# Altium footprint library infineon-tricore.PCBLIB: 6 footprints
Each footprint in its own frame and in the unit in brackets; x right, y up, seen from the top. Pads: shape width x height; smd on the part's side, far side on the other; paste and mask are expansions set on the pad; w line width, h text height; cw(c..) or ccw(c..) is an arc to the next point about the centre after c.
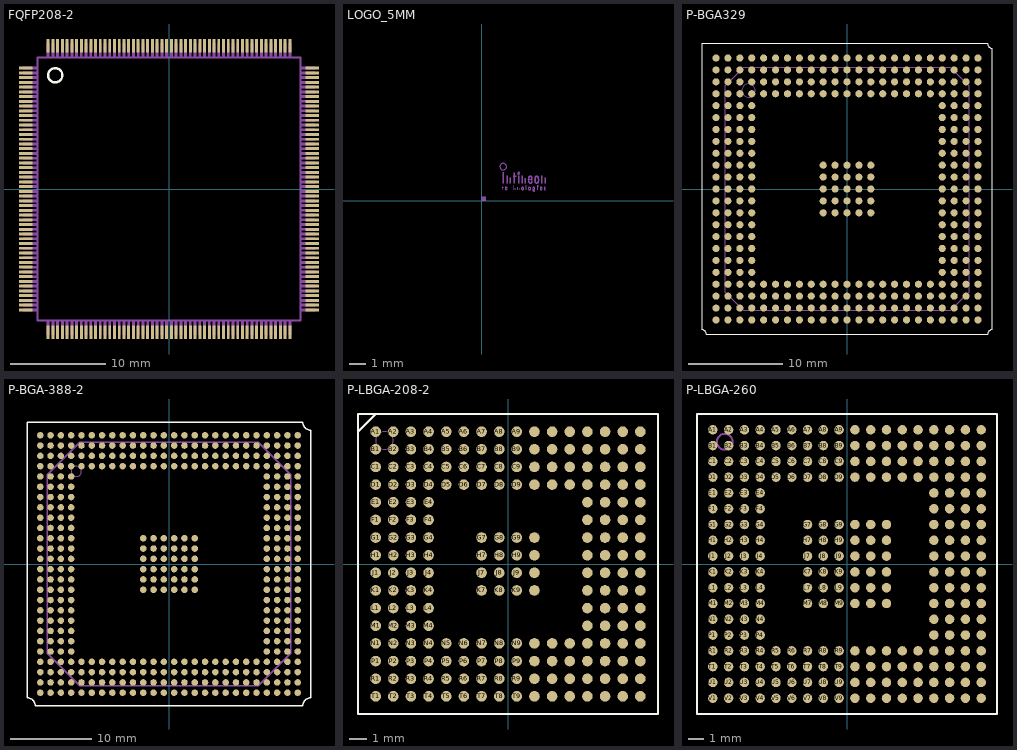
[diagram p0: the footprints below, top view; thin cyan lines are the x and y axes]

## FQFP208-2 [mil]
pads (208):
  rect 55.12x12.2 smd: 1(-595.47,501.97) 2(-595.47,482.28) 3(-595.47,462.6) 4(-595.47,442.91) 5(-595.47,423.23) 6(-595.47,403.54) 7(-595.47,383.86) 8(-595.47,364.17) 9(-595.47,344.49) 10(-595.47,324.8) 11(-595.47,305.12) 12(-595.47,285.43) 13(-595.47,265.75) 14(-595.47,246.06) 15(-595.47,226.38) 16(-595.47,206.69) 17(-595.47,187.01) 18(-595.47,167.32) 19(-595.47,147.64) 20(-595.47,127.95) 21(-595.47,108.27) 22(-595.47,88.58) 23(-595.47,68.9) 24(-595.47,49.21) 25(-595.47,29.53) 26(-595.47,9.84) 27(-595.47,-9.84) 28(-595.47,-29.53) 29(-595.47,-49.21) 30(-595.47,-68.9) 31(-595.47,-88.58) 32(-595.47,-108.27) 33(-595.47,-127.95) 34(-595.47,-147.64) 35(-595.47,-167.32) 36(-595.47,-187.01) 37(-595.47,-206.69) 38(-595.47,-226.38) 39(-595.47,-246.06) 40(-595.47,-265.75) 41(-595.47,-285.43) 42(-595.47,-305.12) 43(-595.47,-324.8) 44(-595.47,-344.49) 45(-595.47,-364.17) 46(-595.47,-383.86) 47(-595.47,-403.54) 48(-595.47,-423.23) 49(-595.47,-442.91) 50(-595.47,-462.6) 51(-595.47,-482.28) 52(-595.47,-501.97) 105(595.47,-501.97) 106(595.47,-482.28) 107(595.47,-462.6) 108(595.47,-442.91) 109(595.47,-423.23) 110(595.47,-403.54) 111(595.47,-383.86) 112(595.47,-364.17) 113(595.47,-344.49) 114(595.47,-324.8) 115(595.47,-305.12) 116(595.47,-285.43) 117(595.47,-265.75) 118(595.47,-246.06) 119(595.47,-226.38) 120(595.47,-206.69) 121(595.47,-187.01) 122(595.47,-167.32) 123(595.47,-147.64) 124(595.47,-127.95) 125(595.47,-108.27) 126(595.47,-88.58) 127(595.47,-68.9) 128(595.47,-49.21) 129(595.47,-29.53) 130(595.47,-9.84) 131(595.47,9.84) 132(595.47,29.53) 133(595.47,49.21) 134(595.47,68.9) 135(595.47,88.58) 136(595.47,108.27) 137(595.47,127.95) 138(595.47,147.64) 139(595.47,167.32) 140(595.47,187.01) 141(595.47,206.69) 142(595.47,226.38) 143(595.47,246.06) 144(595.47,265.75) 145(595.47,285.43) 146(595.47,305.12) 147(595.47,324.8) 148(595.47,344.49) 149(595.47,364.17) 150(595.47,383.86) 151(595.47,403.54) 152(595.47,423.23) 153(595.47,442.91) 154(595.47,462.6) 155(595.47,482.28) 156(595.47,501.97)
  rect 12.2x55.12 smd: 53(-501.97,-595.47) 54(-482.28,-595.47) 55(-462.6,-595.47) 56(-442.91,-595.47) 57(-423.23,-595.47) 58(-403.54,-595.47) 59(-383.86,-595.47) 60(-364.17,-595.47) 61(-344.49,-595.47) 62(-324.8,-595.47) 63(-305.12,-595.47) 64(-285.43,-595.47) 65(-265.75,-595.47) 66(-246.06,-595.47) 67(-226.38,-595.47) 68(-206.69,-595.47) 69(-187.01,-595.47) 70(-167.32,-595.47) 71(-147.64,-595.47) 72(-127.95,-595.47) 73(-108.27,-595.47) 74(-88.58,-595.47) 75(-68.9,-595.47) 76(-49.21,-595.47) 77(-29.53,-595.47) 78(-9.84,-595.47) 79(9.84,-595.47) 80(29.53,-595.47) 81(49.21,-595.47) 82(68.9,-595.47) 83(88.58,-595.47) 84(108.27,-595.47) 85(127.95,-595.47) 86(147.64,-595.47) 87(167.32,-595.47) 88(187.01,-595.47) 89(206.69,-595.47) 90(226.38,-595.47) 91(246.06,-595.47) 92(265.75,-595.47) 93(285.43,-595.47) 94(305.12,-595.47) 95(324.8,-595.47) 96(344.49,-595.47) 97(364.17,-595.47) 98(383.86,-595.47) 99(403.54,-595.47) 100(423.23,-595.47) 101(442.91,-595.47) 102(462.6,-595.47) 103(482.28,-595.47) 104(501.97,-595.47) 157(501.97,595.47) 158(482.28,595.47) 159(462.6,595.47) 160(442.91,595.47) 161(423.23,595.47) 162(403.54,595.47) 163(383.86,595.47) 164(364.17,595.47) 165(344.49,595.47) 166(324.8,595.47) 167(305.12,595.47) 168(285.43,595.47) 169(265.75,595.47) 170(246.06,595.47) 171(226.38,595.47) 172(206.69,595.47) 173(187.01,595.47) 174(167.32,595.47) 175(147.64,595.47) 176(127.95,595.47) 177(108.27,595.47) 178(88.58,595.47) 179(68.9,595.47) 180(49.21,595.47) 181(29.53,595.47) 182(9.84,595.47) 183(-9.84,595.47) 184(-29.53,595.47) 185(-49.21,595.47) 186(-68.9,595.47) 187(-88.58,595.47) 188(-108.27,595.47) 189(-127.95,595.47) 190(-147.64,595.47) 191(-167.32,595.47) 192(-187.01,595.47) 193(-206.69,595.47) 194(-226.38,595.47) 195(-246.06,595.47) 196(-265.75,595.47) 197(-285.43,595.47) 198(-305.12,595.47) 199(-324.8,595.47) 200(-344.49,595.47) 201(-364.17,595.47) 202(-383.86,595.47) 203(-403.54,595.47) 204(-423.23,595.47) 205(-442.91,595.47) 206(-462.6,595.47) 207(-482.28,595.47) 208(-501.97,595.47)
Top Overlay:
  circle w10: c-472.44,472.44 r29.53
Mechanical 16:
  drawing of 212 lines, arcs and shapes, not listed

## LOGO_5MM [mil]
Mechanical 16:
  circle w0: c50.41,80.07 r7.76
  circle w0: c86.22,64.56 r2.28
  circle w0.46: c95.81,28.97 r2.74
  circle w1.36: c111.78,28.97 r2.74
  circle w1.36: c95.58,28.97 r2.74
  circle w0: c130.71,34.67 r1.02
  rectangle: 48.59,40.15 52.46,67.98
  rectangle: 57.71,40.15 61.36,58.85
  rectangle: 65.24,40.15 68.89,54.29
  rectangle: 72.77,55.89 80.98,58.85
  rectangle: 74.59,40.15 78.24,66.38
  rectangle: 84.4,40.15 88.05,59.08
  rectangle: 100.37,40.15 104.02,54.06
  rectangle: 108.13,48.82 119.3,51.55
  rectangle: 138.92,40.15 142.57,58.85
  rectangle: 146.44,40.15 150.1,54.29
  rectangle: 92.84,40.15 96.49,58.85
  rectangle: 48.36,25.78 49.73,34.67
  rectangle: 47.9,31.02 50.87,32.17
  rectangle: 54.06,28.74 59.99,29.88
  rectangle: 73.22,25.78 74.59,37.18
  rectangle: 77.1,25.78 78.47,30.57
  rectangle: 83.03,25.78 84.4,32.17
  rectangle: 86.91,25.78 88.28,30.57
  rectangle: 103.11,25.78 104.47,37.18
  rectangle: 130.02,25.78 131.39,32.39
  rectangle: 135.95,28.74 141.88,29.88
  region: 0,0 10,0 10,10 0,10
  region: 0,0 10,0 10,10 0,10
  region: 0,0 10,0 10,10 0,10
  region: 0,0 10,0 10,10 0,10
  region: 0,0 10,0 10,10 0,10
  region: 0,0 10,0 10,10 0,10
  region: 0,0 10,0 10,10 0,10
  region: 0,0 10,0 10,10 0,10
  region: 0,0 10,0 10,10 0,10
  lines w1.36: 59.31,27.83 cw(c56.07,29.49) 58.4,26.69 cw(c57.08,28.96) 55.43,26.92 cw(c57.13,28.91) 54.52,28.74 cw(c192.46,29.31) 54.52,29.88 cw(c57.12,29.52) 56.11,31.94 cw(c56.92,29.87) 58.17,31.71 cw(c56.62,29.48) 59.31,29.88 59.31,29.65 ; 119.54,25.41 ccw(c122.09,25.4) 119.78,24.32 ccw(c121.71,25.2) 120.44,23.5 ccw(c122.07,25.56) 121.65,22.97 ccw(c122.02,25.11) 123.18,23.27 ccw(c121.98,25.42) 124.32,24.64 ccw(c120.1,26.05) 124.55,26 ccw(c-82.36,27.82) 124.55,29.65 ccw(c122.8,29.63) 123.86,31.02 ccw(c119.79,25.74) 123.18,31.48 ccw(c121.92,29.34) 120.67,31.48 ccw(c121.94,29.3) 119.76,30.57 ccw(c122.31,29.09) 119.76,27.6 ccw(c121.94,28.87) 120.67,26.69 ccw(c121.95,28.87) 122.72,26.46 ccw(c122.01,28.7) 124.09,27.6 ccw(c120.17,29.68) 124.55,28.97 ccw(c7.35,30.68) 124.55,32.39 ; 141.2,27.83 cw(c137.96,29.49) 140.29,26.69 cw(c138.97,28.96) 137.32,26.92 cw(c139.02,28.91) 136.41,28.74 cw(c274.35,29.31) 136.41,29.88 cw(c139.01,29.52) 138,31.94 cw(c138.81,29.87) 140.06,31.71 cw(c138.51,29.48) 141.2,29.88 141.2,29.65 ; 146.22,27.15 ccw(c149.12,30.03) 147.13,26.46 ccw(c147.78,27.62) 148.73,26.69 ccw(c147.77,27.64) 148.96,28.29 ccw(c146.98,27.21) 148.04,29.2 cw(c154.46,41.25) 146.9,29.88 cw(c147.47,30.74) 146.44,30.8 cw(c147.73,30.72) 146.9,31.71 cw(c147.59,30.89) 147.82,31.94 cw(c147.38,29.94) 148.73,31.48
  lines w3.65: 117.48,46.99 cw(c102.16,46.67) 117.37,44.81 cw(c113.05,45.15) 116.51,42.54 cw(c114.26,44.48) 114.51,41.52 cw(c113.85,44.7) 111.78,42.2 cw(c115.42,46.08) 110.86,43.34 cw(c117.65,47.37) 109.95,45.62 cw(c127.47,49.63) 109.72,52.46 cw(c126.9,49.71) 110.18,54.52 cw(c121.8,51.22) 110.86,56.34 cw(c113.38,55.16) 115.2,57.26 cw(c109.09,50.31) 116.11,56.34 cw(c113.61,54.2) 116.56,55.66 cw(c108.79,51.77) 117.48,51.78 117.48,50.87 ; 125,45.17 ccw(c129.06,45.62) 126.83,42.2 ccw(c128.82,45.24) 129.8,41.74 ccw(c128.86,45.06) 132.07,43.8 ccw(c122.14,47.76) 132.76,46.54 ccw(c104.46,49.73) 132.76,52.92 ccw(c125.42,52.1) 131.62,56.11 ccw(c129.01,54.42) 129.57,57.48 ccw(c128.66,52.53) 127.74,57.48 ccw(c128.26,54.61) 125.46,55.43 ccw(c143.5,50.18) 124.78,51.78 ccw(c150.82,49.48) 125,45.39

## P-BGA329 [mil]
pads (329):
  rrect100% 29.92x29.92 smd: A1(-550,550) A2(-500,550) A3(-450,550) A4(-400,550) A5(-350,550) A6(-300,550) A7(-250,550) A8(-200,550) A9(-150,550) A10(-100,550) A11(-50,550) A12(0,550) A13(50,550) A14(100,550) A15(150,550) A16(200,550) A17(250,550) A18(300,550) A19(350,550) A20(400,550) A21(450,550) A22(500,550) A23(550,550) AA1(-550,-450) AA2(-500,-450) AA3(-450,-450) AA4(-400,-450) AA5(-350,-450) AA6(-300,-450) AA7(-250,-450) AA8(-200,-450) AA9(-150,-450) AA10(-100,-450) AA11(-50,-450) AA12(0,-450) AA13(50,-450) AA14(100,-450) AA15(150,-450) AA16(200,-450) AA17(250,-450) AA18(300,-450) AA19(350,-450) AA20(400,-450) AA21(450,-450) AA22(500,-450) AA23(550,-450) AB1(-550,-500) AB2(-500,-500) AB3(-450,-500) AB4(-400,-500) AB5(-350,-500) AB6(-300,-500) AB7(-250,-500) AB8(-200,-500) AB9(-150,-500) AB10(-100,-500) AB11(-50,-500) AB12(0,-500) AB13(50,-500) AB14(100,-500) AB15(150,-500) AB16(200,-500) AB17(250,-500) AB18(300,-500) AB19(350,-500) AB20(400,-500) AB21(450,-500) AB22(500,-500) AB23(550,-500) AC1(-550,-550) AC2(-500,-550) AC3(-450,-550) AC4(-400,-550) AC5(-350,-550) AC6(-300,-550) AC7(-250,-550) AC8(-200,-550) AC9(-150,-550) AC10(-100,-550) AC11(-50,-550) AC12(0,-550) AC13(50,-550) AC14(100,-550) AC15(150,-550) AC16(200,-550) AC17(250,-550) AC18(300,-550) AC19(350,-550) AC20(400,-550) AC21(450,-550) AC22(500,-550) AC23(550,-550) B1(-550,500) B2(-500,500) B3(-450,500) B4(-400,500) B5(-350,500) B6(-300,500) B7(-250,500) B8(-200,500) B9(-150,500) B10(-100,500) B11(-50,500) B12(0,500) B13(50,500) B14(100,500) B15(150,500) B16(200,500) B17(250,500) B18(300,500) B19(350,500) B20(400,500) B21(450,500) B22(500,500) B23(550,500) C1(-550,450) C2(-500,450) C3(-450,450) C4(-400,450) C5(-350,450) C6(-300,450) C7(-250,450) C8(-200,450) C9(-150,450) C10(-100,450) C11(-50,450) C12(0,450) C13(50,450) C14(100,450) C15(150,450) C16(200,450) C17(250,450) C18(300,450) C19(350,450) C20(400,450) C21(450,450) C22(500,450) C23(550,450) D1(-550,400) D2(-500,400) D3(-450,400) D4(-400,400) D5(-350,400) D6(-300,400) D7(-250,400) D8(-200,400) D9(-150,400) D10(-100,400) D11(-50,400) D12(0,400) D13(50,400) D14(100,400) D15(150,400) D16(200,400) D17(250,400) D18(300,400) D19(350,400) D20(400,400) D21(450,400) D22(500,400) D23(550,400) E1(-550,350) E2(-500,350) E3(-450,350) E4(-400,350) E20(400,350) E21(450,350) E22(500,350) E23(550,350) F1(-550,300) F2(-500,300) F3(-450,300) F4(-400,300) F20(400,300) F21(450,300) F22(500,300) F23(550,300) G1(-550,250) G2(-500,250) G3(-450,250) G4(-400,250) G20(400,250) G21(450,250) G22(500,250) G23(550,250) H1(-550,200) H2(-500,200) H3(-450,200) H4(-400,200) H20(400,200) H21(450,200) H22(500,200) H23(550,200) J1(-550,150) J2(-500,150) J3(-450,150) J4(-400,150) J20(400,150) J21(450,150) J22(500,150) J23(550,150) K1(-550,100) K2(-500,100) K3(-450,100) K4(-400,100) K10(-100,100) K11(-50,100) K12(0,100) K13(50,100) K14(100,100) K20(400,100) K21(450,100) K22(500,100) K23(550,100) L1(-550,50) L2(-500,50) L3(-450,50) L4(-400,50) L10(-100,50) L11(-50,50) L12(0,50) L13(50,50) L14(100,50) L20(400,50) L21(450,50) L22(500,50) L23(550,50) M1(-550,0) M2(-500,0) M3(-450,0) M4(-400,0) M10(-100,0) M11(-50,0) M12(0,0) M13(50,0) M14(100,0) M20(400,0) M21(450,0) M22(500,0) M23(550,0) N1(-550,-50) N2(-500,-50) N3(-450,-50) N4(-400,-50) N10(-100,-50) N11(-50,-50) N12(0,-50) N13(50,-50) N14(100,-50) N20(400,-50) N21(450,-50) N22(500,-50) N23(550,-50) P1(-550,-100) P2(-500,-100) P3(-450,-100) P4(-400,-100) P10(-100,-100) P11(-50,-100) P12(0,-100) P13(50,-100) P14(100,-100) P20(400,-100) P21(450,-100) P22(500,-100) P23(550,-100) R1(-550,-150) R2(-500,-150) R3(-450,-150) R4(-400,-150) R20(400,-150) R21(450,-150) R22(500,-150) R23(550,-150) T1(-550,-200) T2(-500,-200) T3(-450,-200) T4(-400,-200) T20(400,-200) T21(450,-200) T22(500,-200) T23(550,-200) U1(-550,-250) U2(-500,-250) U3(-450,-250) U4(-400,-250) U20(400,-250) U21(450,-250) U22(500,-250) U23(550,-250) V1(-550,-300) V2(-500,-300) V3(-450,-300) V4(-400,-300) V20(400,-300) V21(450,-300) V22(500,-300) V23(550,-300) W1(-550,-350) W2(-500,-350) W3(-450,-350) W4(-400,-350) W20(400,-350) W21(450,-350) W22(500,-350) W23(550,-350) Y1(-550,-400) Y2(-500,-400) Y3(-450,-400) Y4(-400,-400) Y5(-350,-400) Y6(-300,-400) Y7(-250,-400) Y8(-200,-400) Y9(-150,-400) Y10(-100,-400) Y11(-50,-400) Y12(0,-400) Y13(50,-400) Y14(100,-400) Y15(150,-400) Y16(200,-400) Y17(250,-400) Y18(300,-400) Y19(350,-400) Y20(400,-400) Y21(450,-400) Y22(500,-400) Y23(550,-400)
Top Overlay:
  lines w5: -610.24,-590.55 -610.24,610.24 590.55,610.24 ccw(c610.24,610.24) 610.24,590.55 610.24,-590.55 ccw(c610.24,-610.24) 590.55,-610.24 -590.55,-610.24 ccw(c-610.24,-610.24) -610.24,-590.55
Mechanical 16:
  circle w5: c-413.39,413.39 r27.84
  lines w5: -511.81,-433.07 -433.07,-511.81 433.07,-511.81 511.81,-433.07 511.81,433.07 433.07,511.81 -433.07,511.81 -511.81,433.07 -511.81,-433.07

## P-BGA-388-2 [mil]
pads (388):
  rrect100% 31.5x31.5 smd: A1(-625,625) A2(-575,625) A3(-525,625) A4(-475,625) A5(-425,625) A6(-375,625) A7(-325,625) A8(-275,625) A9(-225,625) A10(-175,625) A11(-125,625) A12(-75,625) A13(-25,625) A14(25,625) A15(75,625) A16(125,625) A17(175,625) A18(225,625) A19(275,625) A20(325,625) A21(375,625) A22(425,625) A23(475,625) A24(525,625) A25(575,625) A26(625,625) AA1(-625,-375) AA2(-575,-375) AA3(-525,-375) AA4(-475,-375) AA23(475,-375) AA24(525,-375) AA25(575,-375) AA26(625,-375) AB1(-625,-425) AB2(-575,-425) AB3(-525,-425) AB4(-475,-425) AB23(475,-425) AB24(525,-425) AB25(575,-425) AB26(625,-425) AC1(-625,-475) AC2(-575,-475) AC3(-525,-475) AC4(-475,-475) AC5(-425,-475) AC6(-375,-475) AC7(-325,-475) AC8(-275,-475) AC9(-225,-475) AC10(-175,-475) AC11(-125,-475) AC12(-75,-475) AC13(-25,-475) AC14(25,-475) AC15(75,-475) AC16(125,-475) AC17(175,-475) AC18(225,-475) AC19(275,-475) AC20(325,-475) AC21(375,-475) AC22(425,-475) AC23(475,-475) AC24(525,-475) AC25(575,-475) AC26(625,-475) AD1(-625,-525) AD2(-575,-525) AD3(-525,-525) AD4(-475,-525) AD5(-425,-525) AD6(-375,-525) AD7(-325,-525) AD8(-275,-525) AD9(-225,-525) AD10(-175,-525) AD11(-125,-525) AD12(-75,-525) AD13(-25,-525) AD14(25,-525) AD15(75,-525) AD16(125,-525) AD17(175,-525) AD18(225,-525) AD19(275,-525) AD20(325,-525) AD21(375,-525) AD22(425,-525) AD23(475,-525) AD24(525,-525) AD25(575,-525) AD26(625,-525) AE1(-625,-575) AE2(-575,-575) AE3(-525,-575) AE4(-475,-575) AE5(-425,-575) AE6(-375,-575) AE7(-325,-575) AE8(-275,-575) AE9(-225,-575) AE10(-175,-575) AE11(-125,-575) AE12(-75,-575) AE13(-25,-575) AE14(25,-575) AE15(75,-575) AE16(125,-575) AE17(175,-575) AE18(225,-575) AE19(275,-575) AE20(325,-575) AE21(375,-575) AE22(425,-575) AE23(475,-575) AE24(525,-575) AE25(575,-575) AE26(625,-575) AF1(-625,-625) AF2(-575,-625) AF3(-525,-625) AF4(-475,-625) AF5(-425,-625) AF6(-375,-625) AF7(-325,-625) AF8(-275,-625) AF9(-225,-625) AF10(-175,-625) AF11(-125,-625) AF12(-75,-625) AF13(-25,-625) AF14(25,-625) AF15(75,-625) AF16(125,-625) AF17(175,-625) AF18(225,-625) AF19(275,-625) AF20(325,-625) AF21(375,-625) AF22(425,-625) AF23(475,-625) AF24(525,-625) AF25(575,-625) AF26(625,-625) B1(-625,575) B2(-575,575) B3(-525,575) B4(-475,575) B5(-425,575) B6(-375,575) B7(-325,575) B8(-275,575) B9(-225,575) B10(-175,575) B11(-125,575) B12(-75,575) B13(-25,575) B14(25,575) B15(75,575) B16(125,575) B17(175,575) B18(225,575) B19(275,575) B20(325,575) B21(375,575) B22(425,575) B23(475,575) B24(525,575) B25(575,575) B26(625,575) C1(-625,525) C2(-575,525) C3(-525,525) C4(-475,525) C5(-425,525) C6(-375,525) C7(-325,525) C8(-275,525) C9(-225,525) C10(-175,525) C11(-125,525) C12(-75,525) C13(-25,525) C14(25,525) C15(75,525) C16(125,525) C17(175,525) C18(225,525) C19(275,525) C20(325,525) C21(375,525) C22(425,525) C23(475,525) C24(525,525) C25(575,525) C26(625,525) D1(-625,475) D2(-575,475) D3(-525,475) D4(-475,475) D5(-425,475) D6(-375,475) D7(-325,475) D8(-275,475) D9(-225,475) D10(-175,475) D11(-125,475) D12(-75,475) D13(-25,475) D14(25,475) D15(75,475) D16(125,475) D17(175,475) D18(225,475) D19(275,475) D20(325,475) D21(375,475) D22(425,475) D23(475,475) D24(525,475) D25(575,475) D26(625,475) E1(-625,425) E2(-575,425) E3(-525,425) E4(-475,425) E23(475,425) E24(525,425) E25(575,425) E26(625,425) F1(-625,375) F2(-575,375) F3(-525,375) F4(-475,375) F23(475,375) F24(525,375) F25(575,375) F26(625,375) G1(-625,325) G2(-575,325) G3(-525,325) G4(-475,325) G23(475,325) G24(525,325) G25(575,325) G26(625,325) H1(-625,275) H2(-575,275) H3(-525,275) H4(-475,275) H23(475,275) H24(525,275) H25(575,275) H26(625,275) J1(-625,225) J2(-575,225) J3(-525,225) J4(-475,225) J23(475,225) J24(525,225) J25(575,225) J26(625,225) K1(-625,175) K2(-575,175) K3(-525,175) K4(-475,175) K23(475,175) K24(525,175) K25(575,175) K26(625,175) L1(-625,125) L2(-575,125) L3(-525,125) L4(-475,125) L11(-125,125) L12(-75,125) L13(-25,125) L14(25,125) L15(75,125) L16(125,125) L23(475,125) L24(525,125) L25(575,125) L26(625,125) M1(-625,75) M2(-575,75) M3(-525,75) M4(-475,75) M11(-125,75) M12(-75,75) M13(-25,75) M14(25,75) M15(75,75) M16(125,75) M23(475,75) M24(525,75) M25(575,75) M26(625,75) N1(-625,25) N2(-575,25) N3(-525,25) N4(-475,25) N11(-125,25) N12(-75,25) N13(-25,25) N14(25,25) N15(75,25) N16(125,25) N23(475,25) N24(525,25) N25(575,25) N26(625,25) P1(-625,-25) P2(-575,-25) P3(-525,-25) P4(-475,-25) P11(-125,-25) P12(-75,-25) P13(-25,-25) P14(25,-25) P15(75,-25) P16(125,-25) P23(475,-25) P24(525,-25) P25(575,-25) P26(625,-25) R1(-625,-75) R2(-575,-75) R3(-525,-75) R4(-475,-75) R11(-125,-75) R12(-75,-75) R13(-25,-75) R14(25,-75) R15(75,-75) R16(125,-75) R23(475,-75) R24(525,-75) R25(575,-75) R26(625,-75) T1(-625,-125) T2(-575,-125) T3(-525,-125) T4(-475,-125) T11(-125,-125) T12(-75,-125) T13(-25,-125) T14(25,-125) T15(75,-125) T16(125,-125) T23(475,-125) T24(525,-125) T25(575,-125) T26(625,-125) U1(-625,-175) U2(-575,-175) U3(-525,-175) U4(-475,-175) U23(475,-175) U24(525,-175) U25(575,-175) U26(625,-175) V1(-625,-225) V2(-575,-225) V3(-525,-225) V4(-475,-225) V23(475,-225) V24(525,-225) V25(575,-225) V26(625,-225) W1(-625,-275) W2(-575,-275) W3(-525,-275) W4(-475,-275) W23(475,-275) W24(525,-275) W25(575,-275) W26(625,-275) X4(-475,-325) Y1(-625,-325) Y2(-575,-325) Y3(-525,-325) Y23(475,-325) Y24(525,-325) Y25(575,-325) Y26(625,-325)
Top Overlay:
  lines w8: -688.98,-649.61 -688.98,688.98 649.61,688.98 ccw(c688.98,688.98) 688.98,649.61 688.98,-649.61 ccw(c688.98,-688.98) 649.61,-688.98 -649.61,-688.98 ccw(c-688.98,-688.98) -688.98,-649.61
Mechanical 16:
  circle w0: c-450,450 r25
  lines w8: -590.55,-433.07 -433.07,-590.55 433.07,-590.55 590.55,-433.07 590.55,433.07 433.07,590.55 -433.07,590.55 -590.55,433.07 -590.55,-433.07

## P-LBGA-208-2 [mil]
pads (208):
  rrect100% 23.62x23.62 smd: A1(-295.28,295.28) A2(-255.91,295.28) A3(-216.54,295.28) A4(-177.17,295.28) A5(-137.8,295.28) A6(-98.43,295.28) A7(-59.06,295.28) A8(-19.69,295.28) A9(19.69,295.28) A10(59.06,295.28) A11(98.43,295.28) A12(137.8,295.28) A13(177.17,295.28) A14(216.54,295.28) A15(255.91,295.28) A16(295.28,295.28) B1(-295.28,255.91) B2(-255.91,255.91) B3(-216.54,255.91) B4(-177.17,255.91) B5(-137.8,255.91) B6(-98.43,255.91) B7(-59.06,255.91) B8(-19.69,255.91) B9(19.69,255.91) B10(59.06,255.91) B11(98.43,255.91) B12(137.8,255.91) B13(177.17,255.91) B14(216.54,255.91) B15(255.91,255.91) B16(295.28,255.91) C1(-295.28,216.54) C2(-255.91,216.54) C3(-216.54,216.54) C4(-177.17,216.54) C5(-137.8,216.54) C6(-98.43,216.54) C7(-59.06,216.54) C8(-19.69,216.54) C9(19.69,216.54) C10(59.06,216.54) C11(98.43,216.54) C12(137.8,216.54) C13(177.17,216.54) C14(216.54,216.54) C15(255.91,216.54) C16(295.28,216.54) D1(-295.28,177.17) D2(-255.91,177.17) D3(-216.54,177.17) D4(-177.17,177.17) D5(-137.8,177.17) D6(-98.43,177.17) D7(-59.06,177.17) D8(-19.69,177.17) D9(19.69,177.17) D10(59.06,177.17) D11(98.43,177.17) D12(137.8,177.17) D13(177.17,177.17) D14(216.54,177.17) D15(255.91,177.17) D16(295.28,177.17) E1(-295.28,137.8) E2(-255.91,137.8) E3(-216.54,137.8) E4(-177.17,137.8) E13(177.17,137.8) E14(216.54,137.8) E15(255.91,137.8) E16(295.28,137.8) F1(-295.28,98.43) F2(-255.91,98.43) F3(-216.54,98.43) F4(-177.17,98.43) F13(177.17,98.43) F14(216.54,98.43) F15(255.91,98.43) F16(295.28,98.43) G1(-295.28,59.06) G2(-255.91,59.06) G3(-216.54,59.06) G4(-177.17,59.06) G7(-59.06,59.06) G8(-19.69,59.06) G9(19.69,59.06) G10(59.06,59.06) G13(177.17,59.06) G14(216.54,59.06) G15(255.91,59.06) G16(295.28,59.06) H1(-295.28,19.69) H2(-255.91,19.69) H3(-216.54,19.69) H4(-177.17,19.69) H7(-59.06,19.69) H8(-19.69,19.69) H9(19.69,19.69) H10(59.06,19.69) H13(177.17,19.69) H14(216.54,19.69) H15(255.91,19.69) H16(295.28,19.69) J1(-295.28,-19.69) J2(-255.91,-19.69) J3(-216.54,-19.69) J4(-177.17,-19.69) J7(-59.06,-19.69) J8(-19.69,-19.69) J9(19.69,-19.69) J10(59.06,-19.69) J13(177.17,-19.69) J14(216.54,-19.69) J15(255.91,-19.69) J16(295.28,-19.69) K1(-295.28,-59.06) K2(-255.91,-59.06) K3(-216.54,-59.06) K4(-177.17,-59.06) K7(-59.06,-59.06) K8(-19.69,-59.06) K9(19.69,-59.06) K10(59.06,-59.06) K13(177.17,-59.06) K14(216.54,-59.06) K15(255.91,-59.06) K16(295.28,-59.06) L1(-295.28,-98.43) L2(-255.91,-98.43) L3(-216.54,-98.43) L4(-177.17,-98.43) L13(177.17,-98.43) L14(216.54,-98.43) L15(255.91,-98.43) L16(295.28,-98.43) M1(-295.28,-137.8) M2(-255.91,-137.8) M3(-216.54,-137.8) M4(-177.17,-137.8) M13(177.17,-137.8) M14(216.54,-137.8) M15(255.91,-137.8) M16(295.28,-137.8) N1(-295.28,-177.17) N2(-255.91,-177.17) N3(-216.54,-177.17) N4(-177.17,-177.17) N5(-137.8,-177.17) N6(-98.43,-177.17) N7(-59.06,-177.17) N8(-19.69,-177.17) N9(19.69,-177.17) N10(59.06,-177.17) N11(98.43,-177.17) N12(137.8,-177.17) N13(177.17,-177.17) N14(216.54,-177.17) N15(255.91,-177.17) N16(295.28,-177.17) P1(-295.28,-216.54) P2(-255.91,-216.54) P3(-216.54,-216.54) P4(-177.17,-216.54) P5(-137.8,-216.54) P6(-98.43,-216.54) P7(-59.06,-216.54) P8(-19.69,-216.54) P9(19.69,-216.54) P10(59.06,-216.54) P11(98.43,-216.54) P12(137.8,-216.54) P13(177.17,-216.54) P14(216.54,-216.54) P15(255.91,-216.54) P16(295.28,-216.54) R1(-295.28,-255.91) R2(-255.91,-255.91) R3(-216.54,-255.91) R4(-177.17,-255.91) R5(-137.8,-255.91) R6(-98.43,-255.91) R7(-59.06,-255.91) R8(-19.69,-255.91) R9(19.69,-255.91) R10(59.06,-255.91) R11(98.43,-255.91) R12(137.8,-255.91) R13(177.17,-255.91) R14(216.54,-255.91) R15(255.91,-255.91) R16(295.28,-255.91) T1(-295.28,-295.28) T2(-255.91,-295.28) T3(-216.54,-295.28) T4(-177.17,-295.28) T5(-137.8,-295.28) T6(-98.43,-295.28) T7(-59.06,-295.28) T8(-19.69,-295.28) T9(19.69,-295.28) T10(59.06,-295.28) T11(98.43,-295.28) T12(137.8,-295.28) T13(177.17,-295.28) T14(216.54,-295.28) T15(255.91,-295.28) T16(295.28,-295.28)
Top Overlay:
  lines w5: -334.65,295.28 -334.65,334.65 -295.28,334.65 ; -334.65,295.28 -334.65,-334.65 334.65,-334.65 334.65,334.65 -295.28,334.65 ; -334.65,295.28 -295.28,334.65
Mechanical 16:
  circle w0: c-275.59,275.59 r19.69

## P-LBGA-260 [mil]
pads (260):
  rrect100% 23.62x23.62 smd: A1(-334.65,334.65) A2(-295.28,334.65) A3(-255.91,334.65) A4(-216.54,334.65) A5(-177.17,334.65) A6(-137.8,334.65) A7(-98.43,334.65) A8(-59.06,334.65) A9(-19.69,334.65) A10(19.69,334.65) A11(59.06,334.65) A12(98.43,334.65) A13(137.8,334.65) A14(177.17,334.65) A15(216.54,334.65) A16(255.91,334.65) A17(295.28,334.65) A18(334.65,334.65) B1(-334.65,295.28) B2(-295.28,295.28) B3(-255.91,295.28) B4(-216.54,295.28) B5(-177.17,295.28) B6(-137.8,295.28) B7(-98.43,295.28) B8(-59.06,295.28) B9(-19.69,295.28) B10(19.69,295.28) B11(59.06,295.28) B12(98.43,295.28) B13(137.8,295.28) B14(177.17,295.28) B15(216.54,295.28) B16(255.91,295.28) B17(295.28,295.28) B18(334.65,295.28) C1(-334.65,255.91) C2(-295.28,255.91) C3(-255.91,255.91) C4(-216.54,255.91) C5(-177.17,255.91) C6(-137.8,255.91) C7(-98.43,255.91) C8(-59.06,255.91) C9(-19.69,255.91) C10(19.69,255.91) C11(59.06,255.91) C12(98.43,255.91) C13(137.8,255.91) C14(177.17,255.91) C15(216.54,255.91) C16(255.91,255.91) C17(295.28,255.91) C18(334.65,255.91) D1(-334.65,216.54) D2(-295.28,216.54) D3(-255.91,216.54) D4(-216.54,216.54) D5(-177.17,216.54) D6(-137.8,216.54) D7(-98.43,216.54) D8(-59.06,216.54) D9(-19.69,216.54) D10(19.69,216.54) D11(59.06,216.54) D12(98.43,216.54) D13(137.8,216.54) D14(177.17,216.54) D15(216.54,216.54) D16(255.91,216.54) D17(295.28,216.54) D18(334.65,216.54) E1(-334.65,177.17) E2(-295.28,177.17) E3(-255.91,177.17) E4(-216.54,177.17) E15(216.54,177.17) E16(255.91,177.17) E17(295.28,177.17) E18(334.65,177.17) F1(-334.65,137.8) F2(-295.28,137.8) F3(-255.91,137.8) F4(-216.54,137.8) F15(216.54,137.8) F16(255.91,137.8) F17(295.28,137.8) F18(334.65,137.8) G1(-334.65,98.43) G2(-295.28,98.43) G3(-255.91,98.43) G4(-216.54,98.43) G7(-98.43,98.43) G8(-59.06,98.43) G9(-19.69,98.43) G10(19.69,98.43) G11(59.06,98.43) G12(98.43,98.43) G15(216.54,98.43) G16(255.91,98.43) G17(295.28,98.43) G18(334.65,98.43) H1(-334.65,59.06) H2(-295.28,59.06) H3(-255.91,59.06) H4(-216.54,59.06) H7(-98.43,59.06) H8(-59.06,59.06) H9(-19.69,59.06) H10(19.69,59.06) H11(59.06,59.06) H12(98.43,59.06) H15(216.54,59.06) H16(255.91,59.06) H17(295.28,59.06) H18(334.65,59.06) J1(-334.65,19.69) J2(-295.28,19.69) J3(-255.91,19.69) J4(-216.54,19.69) J7(-98.43,19.69) J8(-59.06,19.69) J9(-19.69,19.69) J10(19.69,19.69) J11(59.06,19.69) J12(98.43,19.69) J15(216.54,19.69) J16(255.91,19.69) J17(295.28,19.69) J18(334.65,19.69) K1(-334.65,-19.69) K2(-295.28,-19.69) K3(-255.91,-19.69) K4(-216.54,-19.69) K7(-98.43,-19.69) K8(-59.06,-19.69) K9(-19.69,-19.69) K10(19.69,-19.69) K11(59.06,-19.69) K12(98.43,-19.69) K15(216.54,-19.69) K16(255.91,-19.69) K17(295.28,-19.69) K18(334.65,-19.69) L1(-334.65,-59.06) L2(-295.28,-59.06) L3(-255.91,-59.06) L4(-216.54,-59.06) L7(-98.43,-59.06) L8(-59.06,-59.06) L9(-19.69,-59.06) L10(19.69,-59.06) L11(59.06,-59.06) L12(98.43,-59.06) L15(216.54,-59.06) L16(255.91,-59.06) L17(295.28,-59.06) L18(334.65,-59.06) M1(-334.65,-98.43) M2(-295.28,-98.43) M3(-255.91,-98.43) M4(-216.54,-98.43) M7(-98.43,-98.43) M8(-59.06,-98.43) M9(-19.69,-98.43) M10(19.69,-98.43) M11(59.06,-98.43) M12(98.43,-98.43) M15(216.54,-98.43) M16(255.91,-98.43) M17(295.28,-98.43) M18(334.65,-98.43) N1(-334.65,-137.8) N2(-295.28,-137.8) N3(-255.91,-137.8) N4(-216.54,-137.8) N15(216.54,-137.8) N16(255.91,-137.8) N17(295.28,-137.8) N18(334.65,-137.8) P1(-334.65,-177.17) P2(-295.28,-177.17) P3(-255.91,-177.17) P4(-216.54,-177.17) P15(216.54,-177.17) P16(255.91,-177.17) P17(295.28,-177.17) P18(334.65,-177.17) R1(-334.65,-216.54) R2(-295.28,-216.54) R3(-255.91,-216.54) R4(-216.54,-216.54) R5(-177.17,-216.54) R6(-137.8,-216.54) R7(-98.43,-216.54) R8(-59.06,-216.54) R9(-19.69,-216.54) R10(19.69,-216.54) R11(59.06,-216.54) R12(98.43,-216.54) R13(137.8,-216.54) R14(177.17,-216.54) R15(216.54,-216.54) R16(255.91,-216.54) R17(295.28,-216.54) R18(334.65,-216.54) T1(-334.65,-255.91) T2(-295.28,-255.91) T3(-255.91,-255.91) T4(-216.54,-255.91) T5(-177.17,-255.91) T6(-137.8,-255.91) T7(-98.43,-255.91) T8(-59.06,-255.91) T9(-19.69,-255.91) T10(19.69,-255.91) T11(59.06,-255.91) T12(98.43,-255.91) T13(137.8,-255.91) T14(177.17,-255.91) T15(216.54,-255.91) T16(255.91,-255.91) T17(295.28,-255.91) T18(334.65,-255.91) U1(-334.65,-295.28) U2(-295.28,-295.28) U3(-255.91,-295.28) U4(-216.54,-295.28) U5(-177.17,-295.28) U6(-137.8,-295.28) U7(-98.43,-295.28) U8(-59.06,-295.28) U9(-19.69,-295.28) U10(19.69,-295.28) U11(59.06,-295.28) U12(98.43,-295.28) U13(137.8,-295.28) U14(177.17,-295.28) U15(216.54,-295.28) U16(255.91,-295.28) U17(295.28,-295.28) U18(334.65,-295.28) V1(-334.65,-334.65) V2(-295.28,-334.65) V3(-255.91,-334.65) V4(-216.54,-334.65) V5(-177.17,-334.65) V6(-137.8,-334.65) V7(-98.43,-334.65) V8(-59.06,-334.65) V9(-19.69,-334.65) V10(19.69,-334.65) V11(59.06,-334.65) V12(98.43,-334.65) V13(137.8,-334.65) V14(177.17,-334.65) V15(216.54,-334.65) V16(255.91,-334.65) V17(295.28,-334.65) V18(334.65,-334.65)
Top Overlay:
  lines w5: -374.02,-374.02 374.02,-374.02 374.02,374.02 -374.02,374.02 -374.02,-374.02
Mechanical 16:
  circle w5: c-304.72,304.72 r19.69